# Altium schematic symbol library TH-SMT_WT_MP 1.0.SCHLIB: 20 symbols
Pins are listed as number, name and electrical type; pins without a type are passive.

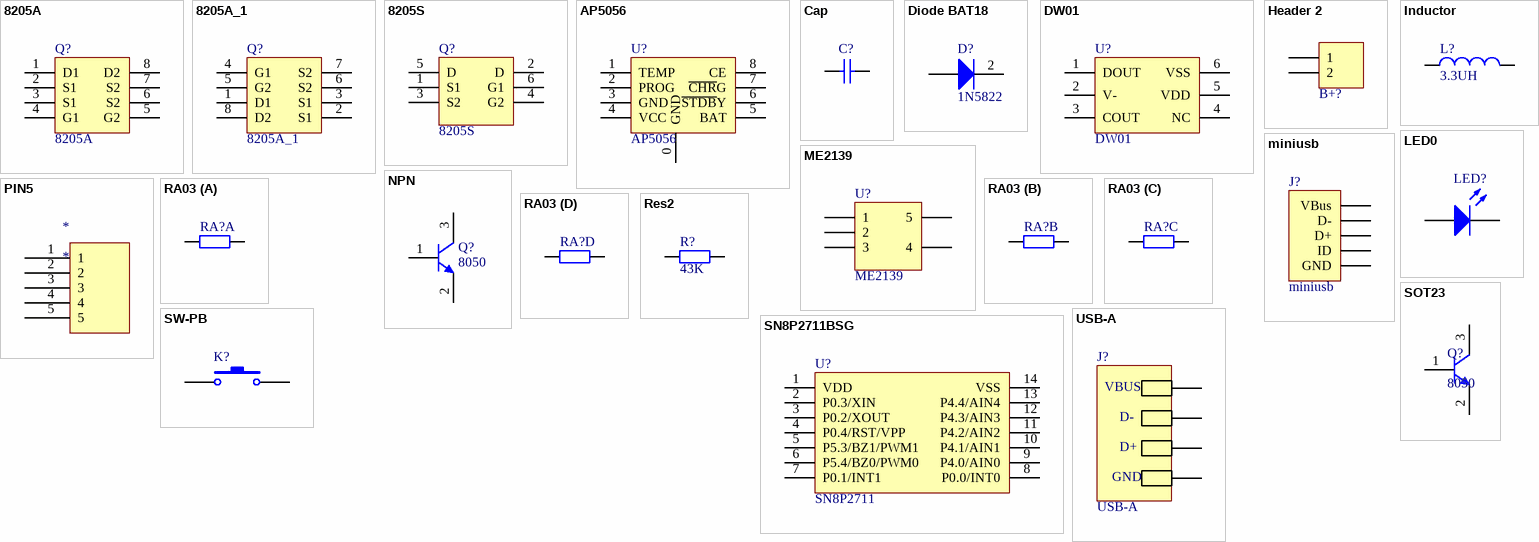
[diagram p0: symbols 8205A to USB-A]

## 8205A
designator Q?
pins: 1 D1, 2 S1, 3 S1, 4 G1, 5 G2, 6 S2, 7 S2, 8 D2

## 8205A_1
designator Q?
footprint TSSOP8
pins: 1 D1, 2 S1, 3 S1, 4 G1, 5 G2, 6 S2, 7 S2, 8 D2

## 8205S
designator Q?
footprint SOT23-6
pins: 1 S1, 2 D, 3 S2, 4 G2, 5 D, 6 G1

## AP5056
designator U?
footprint SOP8
pins: 0 GND, 1 TEMP, 2 PROG, 3 GND, 4 VCC, 5 BAT, 6 ~{STDB}Y, 7 ~{CHR}G, 8 CE

## Cap
designator C?
Capacitor; Published: 8-Jun-2000; LatestRevisionDate: 17-Jul-2002; LatestRevisionNote: Re-released for DXP Platform.; PackageReference: RAD-0.3; Publisher: Altium Limited
footprint RAD-0.3 (Radial Cap, Thru-Hole; 2 Leads; 0.3 in Pin Spacing)
footprint CAPR2.54-5.1x3.2 (Capacitor, Ceramic, Thru-Hole, Dipped Radial; Body 5.1 x 3.2 mm (WxT) Pin Spacing 2.54 mm (typ))
footprint CAPR5.08-7.8x3.2 (Capacitor, Ceramic, Thru-Hole, Dipped Radial; Body 7.8 x 3.2 mm (WxT) Pin Spacing 5.08 mm (typ))
simulation model CAP (Capacitor)
signal-integrity model Cap
pins: 1, 2

## Diode BAT18
designator D?, comment 1N5822
Low-Loss RF Switching Diode; Note: Pin 2 is not connected and not drawn.; Published: 21-Mar-2003; LatestRevisionDate: 29-May-2009; LatestRevisionNote: IPC-7351 Footprint Added.; DatasheetVersion: Oct-1999; PackageVersion: Sep-2001; PackageReference: SOT-23; Publisher: Altium Limited; PackageDescription: 3-Pin SOT-23 Package 0.95 mm Pitch, 2.5 mm Lead Span; ComponentLink1Description: Manufacturer Link; ComponentLink1URL: http://www.infineon.com/
footprint 7979
pins: 1 A, 2 K

## DW01
designator U?
footprint SOT23-6
pins: 1 DOUT, 2 V-, 3 COUT, 4 NC, 5 VDD, 6 VSS

## Header 2
designator B+?  (value not drawn)
Header, 2-Pin; LatestRevisionDate: 17-Jul-2002; LatestRevisionNote: Re-released for DXP Platform.; Publisher: Altium Limited
footprint PIN2 (Photosensitive Diode; 2 Leads)
pins: 1, 2

## Inductor
designator L?, comment 3.3UH
Inductor; Code_IEC: 1005; Published: 8-Jun-2000; LatestRevisionDate: 29-May-2009; LatestRevisionNote: IPC-7351 Footprint Added.; PackageReference: 0402-A; Publisher: Altium Limited; PackageDescription: Chip Inductor; Code_JEITA: 0402
footprint Inductor0
pins: 1, 2

## LED0
designator LED?
Typical INFRARED GaAs LED; Published: 8-Jun-2000; LatestRevisionDate: 08-Jul-2005; LatestRevisionNote: Mech Layer 1 removed.; PackageReference: LED-0; Publisher: Altium Limited
footprint LED0
pins: 1 A, 2 K

## ME2139
designator U?
footprint SOT23-5
pins: 1, 2, 3, 4, 5

## miniusb
designator J?
footprint miniusb
pins: 1 VBus, 2 D-, 3 D+, 4 ID, 5 GND

## NPN
designator Q?, comment 8050
NPN Bipolar Transistor; Published: 8-Jun-2000; LatestRevisionDate: 17-Jul-2002; LatestRevisionNote: Re-released for DXP Platform.; PackageReference: TO-226; Publisher: Altium Limited; Code_JEDEC: TO-226-AA
pins: 1 B, 2 E, 3 C

## PIN5
designator *
pins: 1, 2, 3, 4, 5

## RA03
designator RA?
Resistor; Published: 8-Jun-2000; LatestRevisionDate: 17-Jul-2002; LatestRevisionNote: Re-released for DXP Platform.; PackageReference: AXIAL-0.4; Publisher: Altium Limited
footprint RA03
simulation model RESISTOR (Resistor)
signal-integrity model Res
part A pins: 1, 8
part B pins: 2, 7
part C pins: 3, 6
part D pins: 4, 5

## Res2
designator R?, comment 43K
Resistor; Published: 8-Jun-2000; LatestRevisionDate: 17-Jul-2002; LatestRevisionNote: Re-released for DXP Platform.; PackageReference: AXIAL-0.4; Publisher: Altium Limited
footprint AXIAL-0.4 (Axial Device, Thru-Hole; 2 Leads; 0.4 in Pin Spacing)
simulation model RESISTOR (Resistor)
signal-integrity model Res
pins: 1, 2

## SN8P2711BSG
designator U?, comment SN8P2711
footprint SOP14
pins: 1 VDD, 2 P0.3/XIN, 3 P0.2/XOUT, 4 P0.4/RST/VPP, 5 P5.3/BZ1/PWM1, 6 P5.4/BZ0/PWM0, 7 P0.1/INT1, 8 P0.0/INT0, 9 P4.0/AIN0, 10 P4.1/AIN1, 11 P4.2/AIN2, 12 P4.3/AIN3, 13 P4.4/AIN4, 14 VSS

## SOT23
designator Q?, comment 8050
footprint SOT23 (NPN)
pins: 1 B, 2 E, 3 C

## SW-PB
designator K?
Switch; Published: 24-Mar-1999; LatestRevisionDate: 17-Jul-2002; LatestRevisionNote: Re-released for DXP Platform.; PackageReference: SPST-2; Publisher: Altium Limited
footprint KEY0_Press
pins: 1, 2

## USB-A
designator J?
footprint USB-A
pins: 1, 2, 3, 4
text: VBUS; D-; D+; GND